# EAGLE library part M06 (library pcb_library)
Header 6 Standard 6-pin 0.1" header. Use with straight break away headers (SKU : PRT-00116), right angle break away headers (PRT-00553), swiss pins (PRT-00743), machine pins (PRT-00117), and female headers (PRT-00115). Molex polarized connector foot print use with SKU : PRT-08094 with associated crimp pins and housings. NOTES ON THE VARIANTS LOCK and LOCK_LONGPADS... This footprint was designed to help hold the alignment of a through-hole component (i.e. 6-pin header) while soldering it into place. You may notice that each hole has been shifted either up or down by 0.005 of an inch from it's more standard position (which is a perfectly straight line). This slight alteration caused the pins (the squares in the middle) to touch the edges of the holes. Because they are alternating, it causes a "brace" to hold the component in place. 0.005 has proven to be the perfect amount of "off-center" position when using our standard breakaway headers. Although looks a little odd when you look at the bare footprint, once you have a header in there, the alteration is very hard to notice. Also,if you push a header all the way into place, it is covered up entirely on the bottom side. This idea of altering the position of holes to aid alignment will be further integrated into the Sparkfun Library for other footprints. It can help hold any component with 3 or more connection pins.
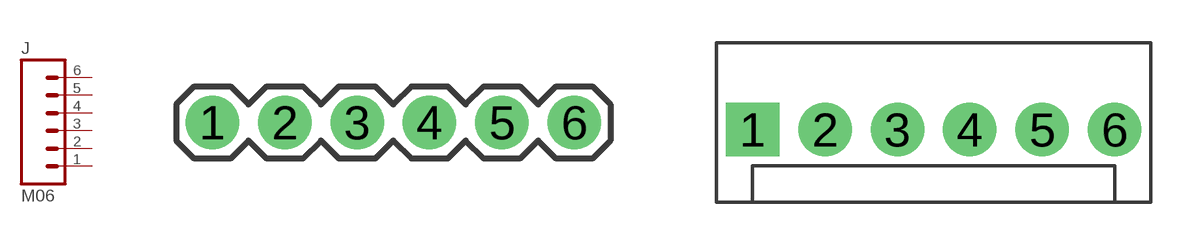
[diagram p1: symbol with the pads of 1X06; footprints 1X06, MOLEX-1X6]

Designator prefix J

## M06SILK_FEMALE_PTH (PROD_ID: CONN-08437)  [1X06]
1  1  pas
2  2  pas
3  3  pas
4  4  pas
5  5  pas
6  6  pas

## M06POLAR  [MOLEX-1X6]
Pads as for 1X06

## M06RA  [MOLEX-1X6-RA]
Pads as for 1X06

## M06SMD (PROD_ID: CONN-08971; VALUE: RA 6Pin SMD)  [1X06-SMD]
Pads as for 1X06

## M06LOCK  [1X06_LOCK]
Pads as for 1X06

## M06LOCK_LONGPADS  [1X06_LOCK_LONGPADS]
Pads as for 1X06

## M06POLAR_LOCK  [MOLEX-1X6_LOCK]
Pads as for 1X06

## M06RA_LOCK  [MOLEX-1X6-RA_LOCK]
Pads as for 1X06

## M06SIP_LOCK  [1X06-SIP_LOCK]
Pads as for 1X06

## M06FEMALE_LOCK  [1X06_FEMALE_LOCK.010]
Pads as for 1X06

## M06LONGPADS  [1X06_LONGPADS]
Pads as for 1X06

## M061X06-SMD_EDGE_FEMALE  [1X06-SMD_EDGE]
Pads as for 1X06

## M063.5MM-6  [SCREWTERMINAL-3.5MM-6]
Pads as for 1X06

## M06SMDF  [1X06-SMD-FEMALE]
Pads as for 1X06

## M06SMD-FEMALE-V2 (PROD_ID: CONN-09668)  [1X06-SMD-FEMALE-V2]
Pads as for 1X06

## M06POGOPIN_HOLES_ONLY (PROD_ID: CONN-08437)  [1X06_HOLES_ONLY]
Pads as for 1X06

## M06SMD-STRAIGHT-FEMALE (PROD_ID: CONN-10203)  [1X06_SMD_STRAIGHT]
Pads as for 1X06

## M06SMD-STRAIGHT-ALT-FEMALE (PROD_ID: CONN-10203)  [1X06_SMD_STRAIGHT_ALT]
Pads as for 1X06

## M06SMD-STRAIGHT-COMBO-FEMALE (PROD_ID: CONN-10203)  [1X06_SMD_STRAIGHT_COMBO]
Pads as for 1X06

## M06VERNIER-ANALOG  [BTA]
Pads as for 1X06

## M06VERNIER-DIGITAL  [BTD]
Pads as for 1X06

## M06SMD_MALE (PROD_ID: CONN-11293)  [1X06_SMD_MALE]
Pads as for 1X06

## M06SMD-1MM  [1X06-1MM]
Pads as for 1X06

## M06NO_SILK_FEMALE_PTH (PROD_ID: CONN-08437)  [1X06_NO_SILK]
Pads as for 1X06

## M06NO_SILK_YES_STOP  [1X06_NO_SILK_YES_STOP]
Pads as for 1X06

## Footprint 1X06 (pad centres in mm)
drill 1.016 pad 1.88: 1 0,0; 2 2.54,0; 3 5.08,0; 4 7.62,0; 5 10.16,0; 6 12.7,0

## Footprint MOLEX-1X6 (pad centres in mm)
drill 1.016 pad 1.88 square: 1 0,0
drill 1.016 pad 1.88: 2 2.54,0; 3 5.08,0; 4 7.62,0; 5 10.16,0; 6 12.7,0

## Footprint MOLEX-1X6-RA (pad centres in mm)
drill 1.016 pad 1.88 square: 1 0,0
drill 1.016 pad 1.88: 2 2.54,0; 3 5.08,0; 4 7.62,0; 5 10.16,0; 6 12.7,0

## Footprint 1X06-SMD (pad centres in mm)
smd 1 x 3: 1 -6.35,5; 2 -3.81,5; 3 -1.27,5; 4 1.27,5; 5 3.81,5; 6 6.35,5
hole 1.4 at -5.08,0
hole 1.4 at 5.08,0

## Footprint 1X06_LOCK (pad centres in mm)
This footprint was designed to help hold the alignment of a through-hole component (i.e. 6-pin header) while soldering it into place. You may notice that each hole has been shifted either up or down by 0.005 of an inch from it's more standard position (which is a perfectly straight line). This slight alteration caused the pins (the squares in the middle) to touch the edges of the holes. Because they are alternating, it causes a "brace" to hold the component in place. 0.005 has proven to be the perfect amount of "off-center" position when using our standard breakaway headers. Although looks a little odd when you look at the bare footprint, once you have a header in there, the alteration is very hard to notice. Also, if you push a header all the way into place, it is covered up entirely on the bottom side. This idea of altering the position of holes to aid alignment will be further integrated into the Sparkfun Library for other footprints. It can help hold any component with 3 or more connection pins.
drill 1.016 pad 1.88: 1 0,0; 2 2.54,-0.254; 3 5.08,0; 4 7.62,-0.254; 5 10.16,0; 6 12.7,-0.254

## Footprint 1X06_LOCK_LONGPADS (pad centres in mm)
This footprint was designed to help hold the alignment of a through-hole component (i.e. 6-pin header) while soldering it into place. You may notice that each hole has been shifted either up or down by 0.005 of an inch from it's more standard position (which is a perfectly straight line). This slight alteration caused the pins (the squares in the middle) to touch the edges of the holes. Because they are alternating, it causes a "brace" to hold the component in place. 0.005 has proven to be the perfect amount of "off-center" position when using our standard breakaway headers. Although looks a little odd when you look at the bare footprint, once you have a header in there, the alteration is very hard to notice. Also, if you push a header all the way into place, it is covered up entirely on the bottom side. This idea of altering the position of holes to aid alignment will be further integrated into the Sparkfun Library for other footprints. It can help hold any component with 3 or more connection pins.
drill 1.016 long: 1 0,0; 2 2.54,-0.254; 3 5.08,0; 4 7.62,-0.254; 5 10.16,0; 6 12.7,-0.254

## Footprint MOLEX-1X6_LOCK (pad centres in mm)
This footprint was designed to help hold the alignment of a through-hole component (i.e. 6-pin header) while soldering it into place. You may notice that each hole has been shifted either up or down by 0.005 of an inch from it's more standard position (which is a perfectly straight line). This slight alteration caused the pins (the squares in the middle) to touch the edges of the holes. Because they are alternating, it causes a "brace" to hold the component in place. 0.005 has proven to be the perfect amount of "off-center" position when using our standard breakaway headers. Although looks a little odd when you look at the bare footprint, once you have a header in there, the alteration is very hard to notice. Also, if you push a header all the way into place, it is covered up entirely on the bottom side. This idea of altering the position of holes to aid alignment will be further integrated into the Sparkfun Library for other footprints. It can help hold any component with 3 or more connection pins.
drill 1.016 pad 1.88: 1 0,0; 2 2.54,-0.254; 3 5.08,0; 4 7.62,-0.254; 5 10.16,0; 6 12.7,-0.254

## Footprint MOLEX-1X6-RA_LOCK (pad centres in mm)
drill 1.016 pad 1.88 square: 1 0,0.127
drill 1.016 pad 1.88: 2 2.54,-0.127; 3 5.08,0.127; 4 7.62,-0.127; 5 10.16,0.127; 6 12.7,-0.127

## Footprint 1X06-SIP_LOCK (pad centres in mm)
This footprint was designed to help hold the alignment of a through-hole component (i.e. 6-pin header) while soldering it into place. You may notice that each hole has been shifted either up or down by 0.005 of an inch from it's more standard position (which is a perfectly straight line). This slight alteration caused the pins (the squares in the middle) to touch the edges of the holes. Because they are alternating, it causes a "brace" to hold the component in place. 0.005 has proven to be the perfect amount of "off-center" position when using our standard breakaway headers. Although looks a little odd when you look at the bare footprint, once you have a header in there, the alteration is very hard to notice. Also, if you push a header all the way into place, it is covered up entirely on the bottom side. This idea of altering the position of holes to aid alignment will be further integrated into the Sparkfun Library for other footprints. It can help hold any component with 3 or more connection pins.
drill 1.016 pad 1.88: 1 0,0; 2 2.54,-0.254; 3 5.08,0; 4 7.62,-0.254; 5 10.16,0; 6 12.7,-0.254

## Footprint 1X06_FEMALE_LOCK.010 (pad centres in mm)
drill 1.016 pad 1.88: 1 0,0.254; 2 2.54,-0.254; 3 5.08,0.254; 4 7.62,-0.254; 5 10.16,0.254; 6 12.7,-0.254

## Footprint 1X06_LONGPADS (pad centres in mm)
drill 1.118 pad 1.88 long: 1 0,0; 2 2.54,0; 3 5.08,0; 4 7.62,0; 5 10.16,0; 6 12.7,0

## Footprint 1X06-SMD_EDGE (pad centres in mm)
smd 1 x 3: 1 0,-0.08; 2 2.54,-0.08; 3 5.08,-0.08; 4 7.62,-0.08; 5 10.16,-0.08; 6 12.7,-0.08

## Footprint SCREWTERMINAL-3.5MM-6 (pad centres in mm)
drill 1.2 pad 2.032 square: 1 0,0
drill 1.2 pad 2.032: 2 3.5,0; 3 7,0; 4 10.5,0; 5 14,0; 6 17.5,0

## Footprint 1X06-SMD-FEMALE (pad centres in mm)
smd 1.02 x 2.16: 1 -6.35,-4.62; 2 -3.81,-4.62; 3 -1.27,-4.62; 4 1.27,-4.62; 5 3.81,-4.62; 6 6.35,-4.62; A1 -6.35,4.62; A2 -3.81,4.62; A3 -1.27,4.62; A4 1.27,4.62; A5 3.81,4.62; A6 6.35,4.62

## Footprint 1X06-SMD-FEMALE-V2 (pad centres in mm)
Package for 4UCONN part #19686 Used on FTDI breakouts
smd 1.25 x 3: 1 6.35,3.425; 2 3.81,3.425; 3 1.27,3.425; 4 -1.27,3.425; 5 -3.81,3.425; 6 -6.35,3.425

## Footprint 1X06_HOLES_ONLY (pad centres in mm)
drill 0.889 pad 0.813: 1 0,0; 2 2.54,0; 3 5.08,0; 4 7.62,0; 5 10.16,0; 6 12.7,0
hole 1.473 at 0,0
hole 1.473 at 2.54,0
hole 1.473 at 5.08,0
hole 1.473 at 7.62,0
hole 1.473 at 10.16,0
hole 1.473 at 12.7,0

## Footprint 1X06_SMD_STRAIGHT (pad centres in mm)
smd 1 x 2: 1 0,1.65; 2 -2.54,-1.65; 3 -5.08,1.65; 4 -7.62,-1.65; 5 -10.16,1.65; 6 -12.7,-1.65

## Footprint 1X06_SMD_STRAIGHT_ALT (pad centres in mm)
smd 1 x 2: 1 0,-1.65; 2 -2.54,1.65; 3 -5.08,-1.65; 4 -7.62,1.65; 5 -10.16,-1.65; 6 -12.7,1.65

## Footprint 1X06_SMD_STRAIGHT_COMBO (pad centres in mm)
smd 1 x 2: 1 0,-1.65; 1-2 0,1.65; 2 2.54,1.65; 2-2 2.54,-1.65; 3 5.08,-1.65; 3-2 5.08,1.65; 4 7.62,1.65; 4-2 7.62,-1.65; 5 10.16,-1.65; 5-2 10.16,1.65; 6 12.7,1.65; 6-2 12.7,-1.65

## Footprint BTA (pad centres in mm)
British Telecom connector, used for Vernier sensors (analog)
drill 1.4 pad 2.54 square: 1 4.75,9
drill 1.4 pad 2.54: 2 3.25,6; 3 1.75,9; 4 0.25,6; 5 -1.25,9; 6 -2.75,6
hole 3.2 at 6.45,0
hole 3.2 at -6.45,0

## Footprint BTD (pad centres in mm)
British Telecom connector, used for Vernier sensors (digital)
drill 1.4 pad 2.54 square: 1 -4.75,6
drill 1.4 pad 2.54: 2 -3.25,9; 3 -1.75,6; 4 -0.25,9; 5 1.25,6; 6 2.75,9
hole 3.2 at 6.45,0
hole 3.2 at -6.45,0

## Footprint 1X06_SMD_MALE (pad centres in mm)
smd 1.02 x 6: 1 0,0; 2 2.54,0; 3 5.08,0; 4 7.62,0; 5 10.16,0; 6 12.7,0

## Footprint 1X06-1MM (pad centres in mm)
Works with part #579 (https://www.sparkfun.com/products/579). Commonly used on GPS modules EM408, EM406 and GP-635T. Also compatible with cable 9123 (https://www.sparkfun.com/products/9123) and cable 574 (https://www.sparkfun.com/products/574).
smd 0.6 x 1.55: 1 -2.54,1.27; 2 -1.54,1.27; 3 -0.54,1.27; 4 0.46,1.27; 5 1.46,1.27; 6 2.46,1.27
smd 1.2 x 1.8: P$1 -3.84,-0.955; P$2 3.76,-0.955

## Footprint 1X06_NO_SILK (pad centres in mm)
drill 1.016 pad 1.88: 1 0,0; 2 2.54,0; 3 5.08,0; 4 7.62,0; 5 10.16,0; 6 12.7,0

## Footprint 1X06_NO_SILK_YES_STOP (pad centres in mm)
drill 1.016 pad 1.88: 1 0,0; 2 2.54,0; 3 5.08,0; 4 7.62,0; 5 10.16,0; 6 12.7,0